# EAGLE library part BQ27441DRZR-G1A (library vikc-ic)
The Texas Instruments bq27441-G1 fuel gauge is a microcontroller peripheral that provides system-side fuel gauging for single-cell Li-Ion batteries. The device requires minimal user configuration and system microcontroller firmware development.
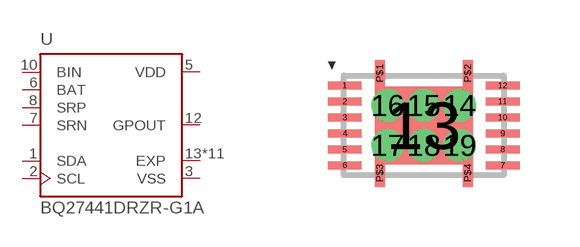
[diagram p14: symbol with the pads of SON40P400X250X100-13N; footprint SON40P400X250X100-13N]

Designator prefix U

## BQ27441DRZR-G1A  [SON40P400X250X100-13N]
1  SDA
2  SCL
3  VSS  pwr
5  VDD  pwr
6  BAT  in
7  SRN  in
8  SRP  in
10  BIN  in
12  GPOUT  out
13  EXP  pwr
14  EXP  pwr
15  EXP  pwr
16  EXP  pwr
17  EXP  pwr
18  EXP  pwr
19  EXP  pwr
P$1  EXP  pwr
P$2  EXP  pwr
P$3  EXP  pwr
P$4  EXP  pwr

## Footprint SON40P400X250X100-13N (pad centres in mm)
smd 0.85 x 0.2: 1 -1.975,1; 2 -1.975,0.6; 3 -1.975,0.2; 4 -1.975,-0.2; 5 -1.975,-0.6; 6 -1.975,-1; 7 1.975,-1; 8 1.975,-0.6; 9 1.975,-0.2; 10 1.975,0.2; 11 1.975,0.6; 12 1.975,1
smd 2.45 x 1.95: 13 0,0
drill 0.3 pad 0.4: 14 0.9,0.5; 15 0,0.5; 16 -0.9,0.5; 17 -0.9,-0.5; 18 0,-0.5; 19 0.9,-0.5
smd 0.25 x 0.675: P$1 -1.1,1.3; P$2 1.1,1.3; P$3 -1.1,-1.2; P$4 1.1,-1.2